# Altium footprint library Rectifier.PcbLib: 10 footprints
Each footprint in its own frame and in the unit in brackets; x right, y up, seen from the top. Pads: shape width x height; smd on the part's side, far side on the other; paste and mask are expansions set on the pad; w line width, h text height; cw(c..) or ccw(c..) is an arc to the next point about the centre after c.
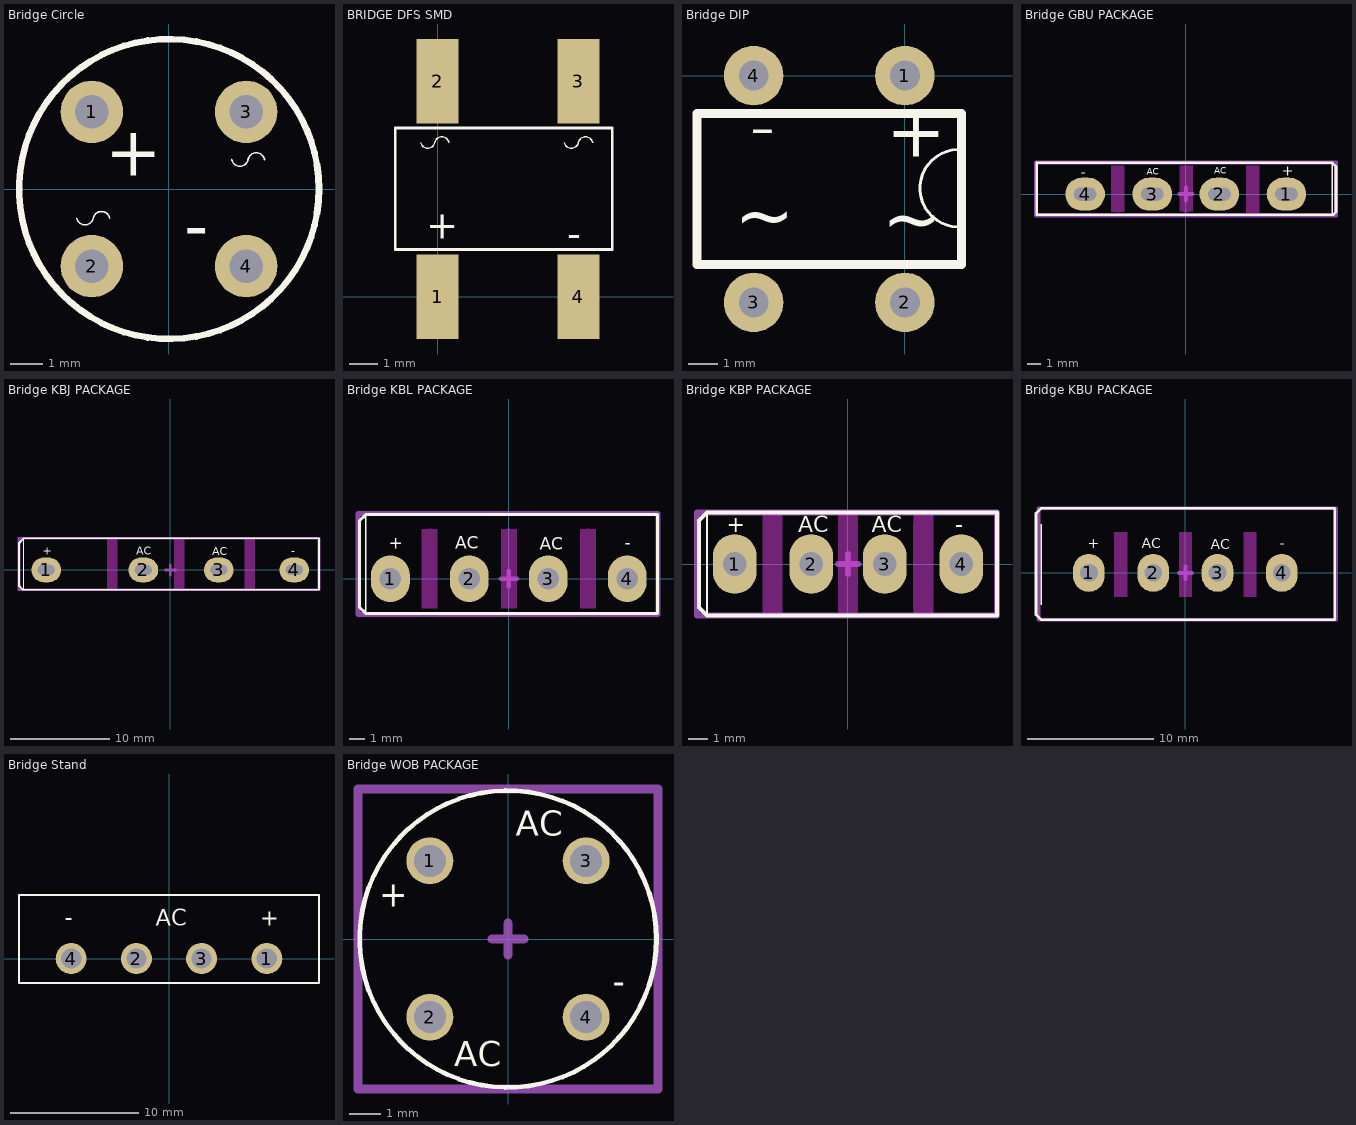
[diagram p0: the footprints below, top view; thin cyan lines are the x and y axes]

## Bridge Circle [mm] "Circle"
height 5.1
pads (4):
  round 1.905 hole 1.016: 1(-2.35,2.35) 2(-2.35,-2.35) 3(2.35,2.35) 4(2.35,-2.35)
Top Overlay:
  circle w0.2: c0,0 r4.572
  lines w0.05: -2.81,-0.89 ccw(c-2.56,-0.84) -2.31,-0.89 cw(c-2.06,-0.94) -1.81,-0.89 ; 1.91,0.9 ccw(c2.16,0.95) 2.41,0.9 cw(c2.66,0.85) 2.91,0.9
  text "-" at 0.46,-1.85 h1.5
  text "+" at -1.94,0.41 h1.5
3D body "bridge.STEP": height 5.21, standoff -1.9, extent -3.923,-4.064 4.177,4.036

## BRIDGE DFS SMD [mm] "1A"
pads (4):
  rect 1.5x3 smd: 1(0,0) 2(0,7.65) 3(5,7.65) 4(5,0)
Top Overlay:
  lines w0.05: -0.6,5.471 ccw(c-0.35,5.521) -0.1,5.471 cw(c0.15,5.421) 0.4,5.471 ; 4.5,5.471 ccw(c4.75,5.521) 5,5.471 cw(c5.25,5.421) 5.5,5.471
  lines w0.1: -1.5,1.676 -1.5,5.994 6.2,5.994 6.2,1.676 -1.5,1.676
  text "+" at -0.4,2.056 h1
  text "-" at 4.6,1.756 h1
3D body "User Library-PONTE-1.STEP": height 2.7, standoff 0, extent -1.6,-1.2 6.5,8.95

## Bridge DIP [mm] "DB107"
pads (4):
  round 2 hole 1 mask+0.025: 1(0,0) 2(0,-7.62) 3(-5.08,-7.62) 4(-5.08,0)
Top Overlay:
  lines w0.1: 1.778,-5.08 cw(c1.797,-3.785) 1.778,-2.49
  lines w0.3: -6.985,-6.35 -6.985,-1.27 1.905,-1.27 1.905,-6.35 -6.985,-6.35
  text "-" at -5.207,-3.048 h3
  text "+" at -0.635,-3.302 h3
  text "~" at -0.762,-6.223 h3
  text "~" at -5.715,-6.096 h3
3D body "User Library-DIP-4 300mil Black.step": height 4.8, standoff -1.7, extent -6.38,-7.62 1.32,0.363

## Bridge GBU PACKAGE [mm] "GBU Bridge Rectifiers DESIGNER :ABBAS BASEREH"
height 30
pads (4):
  oval 3x2.5 hole 1 slot 1.7 at 0 deg: 1(7.62,0) 2(2.54,0) 3(-2.54,0) 4(-7.63,0)
Top Overlay:
  lines w0.1: 11.075,-1.575 11.075,2.375
  lines w0.2: -11.3,-1.575 11.15,-1.575 11.375,-1.35 11.375,2.075 11.075,2.375 -11.3,2.375 -11.3,-1.575
  text "AC" at 2.15,1.525 h0.5
  text "-" at -7.975,1.275 h0.8
  text "+" at 7.275,1.375 h0.8
  text "AC" at -2.95,1.475 h0.5
Keep-Out Layer:
  board cut-out: 4.575,2.15 5.575,2.15 5.575,-1.425 4.575,-1.425
  board cut-out: -0.475,2.15 0.525,2.15 0.525,-1.3 -0.475,-1.3
  board cut-out: -5.65,2.15 -4.65,2.15 -4.65,-1.35 -5.65,-1.35
Keep-Out Layer:
  lines w1: -5.15,-0.9 -5.15,1.65 ; 0.025,-0.875 0.025,1.65 ; 5.05,-0.925 5.05,1.65
Mechanical 15:
  lines w0.3: -0.5,0 0.525,0 ; 0,-0.5 0,0.5 ; -11.35,-1.625 -11.35,2.4 11.375,2.4 11.375,-1.625 -11.35,-1.625
3D body "User Library-GBU.STEP": height 21.83, standoff -2.5, extent -11.125,-1.41 11.175,2.15

## Bridge KBJ PACKAGE [mm] "KBJ Bridge Rectifiers DESIGNER :ABBAS BASEREH"
height 35
pads (4):
  oval 3x2.5 hole 1 slot 1.7 at 0 deg: 1(-12.525,0) 2(-2.715,0) 3(4.905,0) 4(12.525,0)
Top Overlay:
  lines w0.1: -14.775,-2 -14.775,3.1
  lines w0.2: -15.275,-1.6 -15.275,2.7 -14.775,3.2 15.025,3.2 15.025,-2 -14.875,-2 -15.275,-1.6
  text "AC" at -3.408,1.525 h0.8
  text "AC" at 4.225,1.5 h0.8
  text "-" at 12.225,1.525 h0.8
  text "+" at -12.875,1.525 h0.8
Keep-Out Layer:
  board cut-out: 7.55,3.1 8.55,3.1 8.55,-2 7.55,-2
  board cut-out: 0.425,3.1 1.425,3.1 1.425,-2 0.425,-2
  board cut-out: -6.375,3.2 -5.375,3.2 -5.375,-1.9 -6.375,-1.9
Keep-Out Layer:
  lines w1: -5.875,-1.425 -5.875,2.725 ; 0.925,-1.525 0.925,2.625 ; 8.025,-1.525 8.025,2.625
Mechanical 15:
  lines w0.3: -0.5,0 0.525,0 ; 0,-0.5 0,0.5 ; -15.275,-2 -15.275,3.2 15.025,3.2 15.025,-2 -15.275,-2
3D body "User Library-KBJ-GSIB.STEP": height 31.25, standoff -7.71, extent -15.071,-1.8 14.925,3

## Bridge KBL PACKAGE [mm] "KBL Bridge Rectifiers DESIGNER :ABBAS BASEREH"
height 15
pads (4):
  oval 2.5x3 hole 1.4: 1(-7.62,0) 2(-2.54,0) 3(2.54,0) 4(7.62,0)
Top Overlay:
  lines w0.1: -9.2,-2.225 -9.2,4.125
  lines w0.2: -9.612,-1.813 -9.2,-2.225 9.563,-2.225 9.563,4.125 -9.2,4.125 -9.612,3.713 -9.612,-1.813
  text "+" at -7.725,1.925 h0.8
  text "-" at 7.475,1.925 h0.8
  text "AC" at 2,1.875 h0.8
  text "AC" at -3.45,1.925 h0.8
Keep-Out Layer:
  board cut-out: -5.6,3.2 -4.6,3.2 -4.6,-1.9 -5.6,-1.9
  board cut-out: -0.5,3.2 0.5,3.2 0.5,-1.9 -0.5,-1.9
  board cut-out: 4.6,3.2 5.6,3.2 5.6,-1.9 4.6,-1.9
Keep-Out Layer:
  lines w1: -5.1,-1.425 -5.1,2.725 ; 0,-1.425 0,2.725 ; 5.075,-1.425 5.075,2.725
Mechanical 15:
  lines w0.3: -0.5,0 0.525,0 ; 0,-0.5 0,0.5 ; -9.7,-2.3 9.6,-2.3 9.6,4.2 -9.7,4.2 -9.7,-2.3
3D body "User Library-KBL-1.STEP": height 16.05, standoff -4.2, extent -9.512,-2.125 9.488,4.126

## Bridge KBP PACKAGE [mm] "KBP Bridge Rectifiers DESIGNER :ABBAS BASEREH"
height 10
pads (4):
  oval 2.2x3 hole 1.2: 1(-5.7,0) 2(-1.85,0) 3(1.85,0) 4(5.7,0)
Top Overlay:
  lines w0.1: -7.1,-2.55 -7.1,2.6
  lines w0.2: -7.5,-2.2 -7.5,2.2 -7.1,2.6 7.5,2.6 7.5,-2.6 -7.1,-2.6 -7.5,-2.2
  text "AC" at -2.5,1.6 h0.8
  text "AC" at 1.2,1.6 h0.8
  text "-" at 5.4,1.6 h0.8
  text "+" at -6.1,1.6 h0.8
Keep-Out Layer:
  board cut-out: 3.3,2.5 4.3,2.5 4.3,-2.6 3.3,-2.6
  board cut-out: -0.5,2.5 0.5,2.5 0.5,-2.6 -0.5,-2.6
  board cut-out: -4.3,2.5 -3.3,2.5 -3.3,-2.6 -4.3,-2.6
Keep-Out Layer:
  lines w1: -3.8,-2.125 -3.8,2.025 ; 0,-2.125 0,2.025 ; 3.775,-2.125 3.775,2.025
Mechanical 15:
  lines w0.3: -0.5,0 0.525,0 ; 0,-0.5 0,0.5 ; -7.6,-2.6 -7.6,2.6 7.5,2.6 7.5,-2.6 -7.6,-2.6
3D body "User Library-KBP.STEP": height 12.49, standoff -3.2, extent -7.377,-2.415 7.353,2.41

## Bridge KBU PACKAGE [mm] "KBU Bridge Rectifiers DESIGNER :ABBAS BASEREH"
height 18
pads (4):
  oval 2.5x3 hole 1.4: 1(-7.62,0) 2(-2.54,0) 3(2.54,0) 4(7.62,0)
Top Overlay:
  lines w0.1: -11.4,-2.5 -11.4,3.85
  lines w0.2: -11.8,-3.3 -11.8,4.7 -11.4,5.1 11.8,5.1 11.8,-3.7 -11.4,-3.7 -11.8,-3.3
  text "AC" at -3.45,1.925 h0.8
  text "AC" at 2,1.875 h0.8
  text "-" at 7.475,1.925 h0.8
  text "+" at -7.725,1.925 h0.8
Keep-Out Layer:
  board cut-out: 4.6,3.2 5.6,3.2 5.6,-1.9 4.6,-1.9
  board cut-out: -0.5,3.2 0.5,3.2 0.5,-1.9 -0.5,-1.9
  board cut-out: -5.6,3.2 -4.6,3.2 -4.6,-1.9 -5.6,-1.9
Keep-Out Layer:
  lines w1: -5.1,-1.425 -5.1,2.725 ; 0,-1.425 0,2.725 ; 5.075,-1.425 5.075,2.725
Mechanical 15:
  lines w0.3: -0.5,0 0.525,0 ; 0,-0.5 0,0.5 ; -11.6,-3.7 -11.6,5.1 11.9,5.1 11.9,-3.7 -11.6,-3.7
3D body "User Library-KBU.STEP": height 19.6, standoff -4.2, extent -11.612,-3.55 11.588,4.95

## Bridge Stand [mil]
pads (4):
  round 95 hole 62: 1(300,0) 2(-100,0) 3(100,0) 4(-300,0)
Top Overlay:
  lines w7: -460,-75 460,-75 460,195 -460,195 -460,-75
  text "AC" at -40,100 h50
  text "-" at -320,100 h50
  text "+" at 280,100 h50
3D body "KBU8M.STEP": height 759.84, standoff -157.48, extent -455,-75 458.39,195.08

## Bridge WOB PACKAGE [mm] "WOB Bridge Rectifiers DESIGNER :ABBAS BASEREH"
height 5.1
pads (4):
  round 1.5 / inner round 1.905 / far side round 1.905 hole 1.016: 1(-2.5,2.5) 2(-2.5,-2.5) 3(2.5,2.5) 4(2.5,-2.5)
Top Overlay:
  circle w0.15: c0,0 r4.75
  text "AC" at 0.25,3.3 h0.8
  text "AC" at -1.725,-4.075 h0.8
  text "+" at -4.125,1.025 h0.8
  text "-" at 3.35,-1.75 h0.8
Mechanical 15:
  lines w0.3: -0.5,0 0.5,0 ; 0,-0.5 0,0.5 ; -4.8,-4.8 4.8,-4.8 4.8,4.8 -4.8,4.8 -4.8,-4.8
3D body "User Library-WOB.STEP": height 5.9, standoff -3.2, extent -4.675,-4.675 4.625,4.625